# Altium schematic symbol library hedb.SchLib: 19 symbols
Pins are listed as number, name and electrical type; pins without a type are passive.

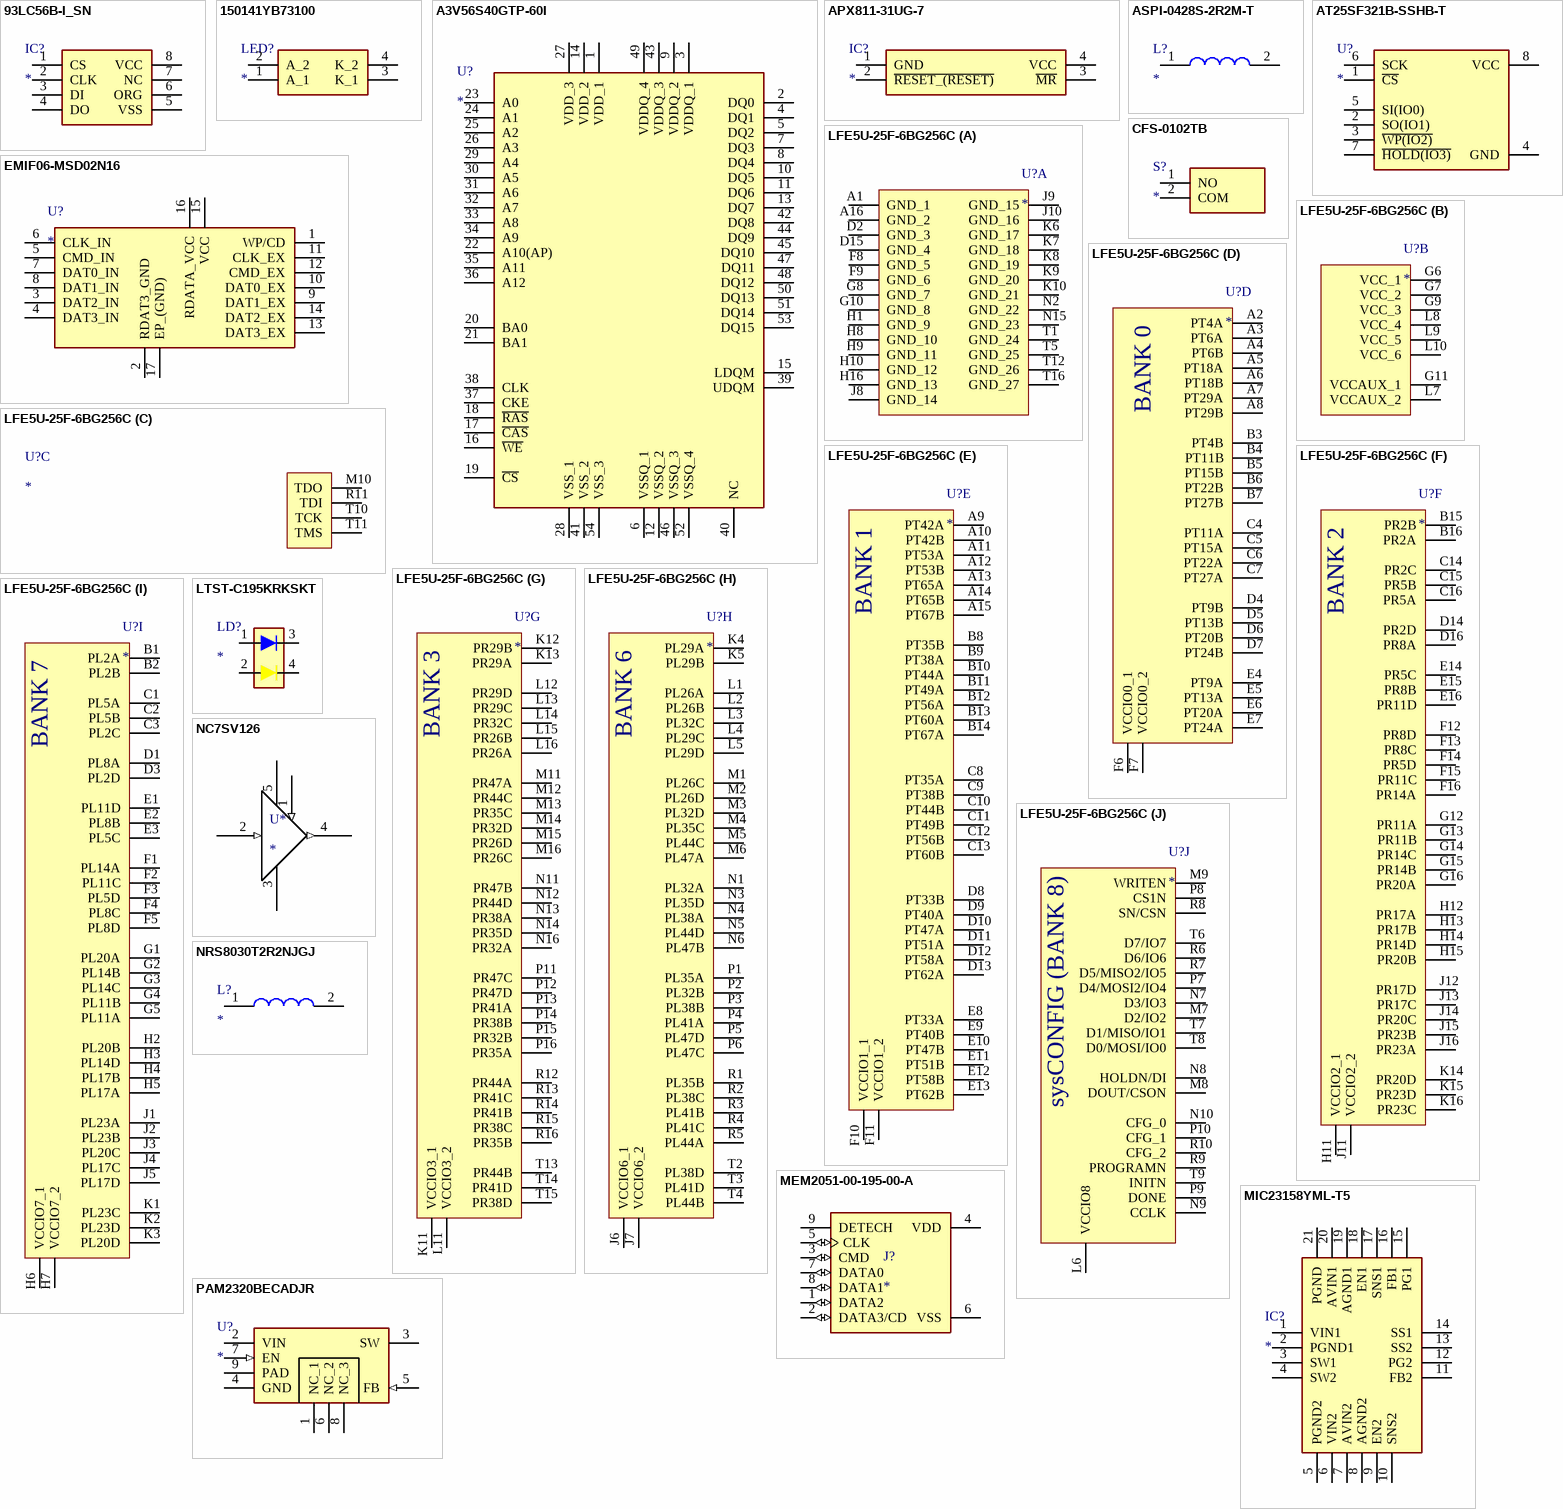
[diagram p0: symbols 93LC56B-I_SN to PAM2320BECADJR]

## 93LC56B-I_SN
designator IC?
Integrated Circuit; Manufacturer_Name: Microchip; Manufacturer_Part_Number: 93LC56B-I/SN; Datasheet Link: http://ww1.microchip.com/downloads/en/DeviceDoc/21794G.pdf; Height: 1.75mm; Mouser Part Number: 579-93LC56BISN; Mouser Price/Stock: https://www.mouser.co.uk/ProductDetail/Microchip-Technology/93LC56B-I-SN?qs=JhC4kYev1ubTO3jC60ECfA%3D%3D; Arrow Part Number: 93LC56B-I/SN; Arrow Price/Stock: https://www.arrow.com/en/products/93lc56b-isn/microchip-technology?region=nac
footprint SOIC127P600X175-8N
pins: 1 CS, 2 CLK, 3 DI, 4 DO, 5 VSS, 6 ORG, 7 NC, 8 VCC

## 150141YB73100
designator LED?
LED; Manufacturer_Name: Wurth Elektronik; Manufacturer_Part_Number: 150141YB73100; Datasheet Link: https://katalog.we-online.com/led/datasheet/150141YB73100.pdf; Mouser Part Number: 710-150141YB73100; Mouser Price/Stock: https://www.mouser.co.uk/ProductDetail/Wurth-Elektronik/150141YB73100?qs=LlUlMxKIyB0w3o6OoXw%252BvA%3D%3D
footprint WL-SBTW_SMD_TOP_LED
pins: 1 A_1, 2 A_2, 3 K_1, 4 K_2

## A3V56S40GTP-60I
designator U?
Integrated Circuit; Manufacturer_Name: Zentel; Manufacturer_Part_Number: A3V56S40GTP-60I; Datasheet Link: https://4donline.ihs.com/images/VipMasterIC/IC/ZENT/ZENT-S-A0003722637/ZENT-S-A0003722637-1.pdf?hkey=EF798316E3902B6ED9A73243A3159BB0; Height: 1.2mm
footprint SOP80P1176X120-54N
pins: 1 VDD_1, 2 DQ0, 3 VDDQ_1, 4 DQ1, 5 DQ2, 6 VSSQ_1, 7 DQ3, 8 DQ4, 9 VDDQ_2, 10 DQ5, 11 DQ6, 12 VSSQ_2, 13 DQ7, 14 VDD_2, 15 LDQM, 16 ~{WE}, 17 ~{CAS}, 18 ~{RAS}, 19 ~{CS}, 20 BA0, 21 BA1, 22 A10(AP), 23 A0, 24 A1, 25 A2, 26 A3, 27 VDD_3, 28 VSS_1, 29 A4, 30 A5, 31 A6, 32 A7, 33 A8, 34 A9, 35 A11, 36 A12, 37 CKE, 38 CLK, 39 UDQM, 40 NC, 41 VSS_2, 42 DQ8, 43 VDDQ_3, 44 DQ9, 45 DQ10, 46 VSSQ_3, 47 DQ11, 48 DQ12, 49 VDDQ_4, 50 DQ13, 51 DQ14, 52 VSSQ_4, 53 DQ15, 54 VSS_3

## APX811-31UG-7
designator IC?
Integrated Circuit; Manufacturer_Name: Diodes Inc.; Manufacturer_Part_Number: APX811-31UG-7; Datasheet Link: https://www.diodes.com/assets/Datasheets/APX811_812.pdf; Mouser Part Number: 621-APX811-31UG-7; Mouser Price/Stock: https://www.mouser.co.uk/ProductDetail/Diodes-Incorporated/APX811-31UG-7?qs=uwE%252BXfKqZqSgAtkeUziWwA%3D%3D; Arrow Part Number: APX811-31UG-7; Arrow Price/Stock: https://www.arrow.com/en/products/apx811-31ug-7/diodes-incorporated?region=nac
footprint SOT143
pins: 1 GND, 2 ~{RESET_(RESET)}, 3 ~{MR}, 4 VCC

## ASPI-0428S-2R2M-T
designator L?
Inductor; Manufacturer_Name: ABRACON; Manufacturer_Part_Number: ASPI-0428S-2R2M-T; Datasheet Link: https://abracon.com/Magnetics/power/ASPI0428S.pdf; Height: 3mm; Mouser Part Number: 815-ASPI-0428S-2R2M; Mouser Price/Stock: https://www.mouser.com/Search/Refine.aspx?Keyword=815-ASPI-0428S-2R2M
footprint ASPI0428S2R2MT
pins: 1, 2

## AT25SF321B-SSHB-T
designator U?
Integrated Circuit; Manufacturer_Name: Adesto Technologies; Manufacturer_Part_Number: AT25SF321B-SSHB-T; Datasheet Link: https://datasheet.datasheetarchive.com/originals/distributors/Datasheets_SAMA/2107a9c539d1764c2819650dbf0db220.pdf; Height: 1.75mm; Mouser Part Number: 988-AT25SF321BSSHB-T; Mouser Price/Stock: https://www.mouser.co.uk/ProductDetail/Adesto-Technologies/AT25SF321B-SSHB-T?qs=B6kkDfuK7%2FBmWqMcbWivvw%3D%3D; Arrow Part Number: AT25SF321B-SSHB-T; Arrow Price/Stock: https://www.arrow.com/en/products/at25sf321b-sshb-t/adesto-technologies-corporation-inc
footprint SOIC127P600X175-8N
pins: 1 ~{CS}, 2 SO(IO1), 3 ~{WP(IO2)}, 4 GND, 5 SI(IO0), 6 SCK, 7 ~{HOLD(IO3)}, 8 VCC

## CFS-0102TB
designator S?
Switch; Manufacturer_Name: NIDEC COPAL; Manufacturer_Part_Number: CFS-0102TB; Datasheet Link: https://www.nidec-copal-electronics.com/e/catalog/switch/cfs.pdf; Height: 4.7mm; Mouser Part Number: 229-CFS-0102TB; Mouser Price/Stock: https://www.mouser.co.uk/ProductDetail/Nidec-Copal/CFS-0102TB?qs=XeJtXLiO41Q%2F6gtnIMuqpA%3D%3D
footprint CFS0102TB
pins: 1 NO, 2 COM

## EMIF06-MSD02N16
designator U?
Filter; Manufacturer_Name: STMicroelectronics; Manufacturer_Part_Number: EMIF06-MSD02N16; Datasheet Link: http://www.st.com/content/ccc/resource/technical/document/datasheet/a7/86/d3/98/2c/7f/4b/d2/CD00217829.pdf/files/CD00217829.pdf/jcr:content/translations/en.CD00217829.pdf; Height: 0mm; Mouser Part Number: 511-EMIF06-MSD02N16; Mouser Price/Stock: https://www.mouser.co.uk/ProductDetail/STMicroelectronics/EMIF06-MSD02N16?qs=1CGoW%2F3pMwpSqVuN8kmN4Q%3D%3D; Arrow Part Number: EMIF06-MSD02N16; Arrow Price/Stock: https://www.arrow.com/en/products/emif06-msd02n16/stmicroelectronics
footprint EMIF06MSD02N16
pins: 1 WP/CD, 2 RDAT3_GND, 3 DAT2_IN, 4 DAT3_IN, 5 CMD_IN, 6 CLK_IN, 7 DAT0_IN, 8 DAT1_IN, 9 DAT1_EX, 10 DAT0_EX, 11 CLK_EX, 12 CMD_EX, 13 DAT3_EX, 14 DAT2_EX, 15 VCC, 16 RDATA_VCC, 17 EP_(GND)

## LFE5U-25F-6BG256C
designator U?
Integrated Circuit; Manufacturer_Name: Lattice Semiconductor; Manufacturer_Part_Number: LFE5U-25F-6BG256C; Datasheet Link: http://www.latticesemi.com/view_document?document_id=50461; Height: 1.7mm; Mouser Part Number: 842-LFE5U25F6BG256C; Mouser Price/Stock: https://www.mouser.co.uk/ProductDetail/Lattice/LFE5U-25F-6BG256C?qs=w%2Fv1CP2dgqrTaI14mPfyBg%3D%3D; Arrow Part Number: LFE5U-25F-6BG256C; Arrow Price/Stock: https://www.arrow.com/en/products/lfe5u-25f-6bg256c/lattice-semiconductor
footprint BGA256C80P16X16_1400X1400X170
part A pins: A1 GND_1, A16 GND_2, D2 GND_3, D15 GND_4, F8 GND_5, F9 GND_6, G8 GND_7, G10 GND_8, H1 GND_9, H8 GND_10, H9 GND_11, H10 GND_12, H16 GND_13, J8 GND_14, J9 GND_15, J10 GND_16, K6 GND_17, K7 GND_18, K8 GND_19, K9 GND_20, K10 GND_21, N2 GND_22, N15 GND_23, T1 GND_24, T5 GND_25, T12 GND_26, T16 GND_27
part B pins: G6 VCC_1, G7 VCC_2, G9 VCC_3, G11 VCCAUX_1, L7 VCCAUX_2, L8 VCC_4, L9 VCC_5, L10 VCC_6
part C pins: M10 TDO, R11 TDI, T10 TCK, T11 TMS
part D pins: A2 PT4A, A3 PT6A, A4 PT6B, A5 PT18A, A6 PT18B, A7 PT29A, A8 PT29B, B3 PT4B, B4 PT11B, B5 PT15B, B6 PT22B, B7 PT27B, C4 PT11A, C5 PT15A, C6 PT22A, C7 PT27A, D4 PT9B, D5 PT13B, D6 PT20B, D7 PT24B, E4 PT9A, E5 PT13A, E6 PT20A, E7 PT24A, F6 VCCIO0_1, F7 VCCIO0_2
part E pins: A9 PT42A, A10 PT42B, A11 PT53A, A12 PT53B, A13 PT65A, A14 PT65B, A15 PT67B, B8 PT35B, B9 PT38A, B10 PT44A, B11 PT49A, B12 PT56A, B13 PT60A, B14 PT67A, C8 PT35A, C9 PT38B, C10 PT44B, C11 PT49B, C12 PT56B, C13 PT60B, D8 PT33B, D9 PT40A, D10 PT47A, D11 PT51A, D12 PT58A, D13 PT62A, E8 PT33A, E9 PT40B, E10 PT47B, E11 PT51B, E12 PT58B, E13 PT62B, F10 VCCIO1_1, F11 VCCIO1_2
part F pins: B15 PR2B, B16 PR2A, C14 PR2C, C15 PR5B, C16 PR5A, D14 PR2D, D16 PR8A, E14 PR5C, E15 PR8B, E16 PR11D, F12 PR8D, F13 PR8C, F14 PR5D, F15 PR11C, F16 PR14A, G12 PR11A, G13 PR11B, G14 PR14C, G15 PR14B, G16 PR20A, H11 VCCIO2_1, H12 PR17A, H13 PR17B, H14 PR14D, H15 PR20B, J11 VCCIO2_2, J12 PR17D, J13 PR17C, J14 PR20C, J15 PR23B, J16 PR23A, K14 PR20D, K15 PR23D, K16 PR23C
part G pins: K11 VCCIO3_1, K12 PR29B, K13 PR29A, L11 VCCIO3_2, L12 PR29D, L13 PR29C, L14 PR32C, L15 PR26B, L16 PR26A, M11 PR47A, M12 PR44C, M13 PR35C, M14 PR32D, M15 PR26D, M16 PR26C, N11 PR47B, N12 PR44D, N13 PR38A, N14 PR35D, N16 PR32A, P11 PR47C, P12 PR47D, P13 PR41A, P14 PR38B, P15 PR32B, P16 PR35A, R12 PR44A, R13 PR41C, R14 PR41B, R15 PR38C, R16 PR35B, T13 PR44B, T14 PR41D, T15 PR38D
part H pins: J6 VCCIO6_1, J7 VCCIO6_2, K4 PL29A, K5 PL29B, L1 PL26A, L2 PL26B, L3 PL32C, L4 PL29C, L5 PL29D, M1 PL26C, M2 PL26D, M3 PL32D, M4 PL35C, M5 PL44C, M6 PL47A, N1 PL32A, N3 PL35D, N4 PL38A, N5 PL44D, N6 PL47B, P1 PL35A, P2 PL32B, P3 PL38B, P4 PL41A, P5 PL47D, P6 PL47C, R1 PL35B, R2 PL38C, R3 PL41B, R4 PL41C, R5 PL44A, T2 PL38D, T3 PL41D, T4 PL44B
part I pins: B1 PL2A, B2 PL2B, C1 PL5A, C2 PL5B, C3 PL2C, D1 PL8A, D3 PL2D, E1 PL11D, E2 PL8B, E3 PL5C, F1 PL14A, F2 PL11C, F3 PL5D, F4 PL8C, F5 PL8D, G1 PL20A, G2 PL14B, G3 PL14C, G4 PL11B, G5 PL11A, H2 PL20B, H3 PL14D, H4 PL17B, H5 PL17A, H6 VCCIO7_1, H7 VCCIO7_2, J1 PL23A, J2 PL23B, J3 PL20C, J4 PL17C, J5 PL17D, K1 PL23C, K2 PL23D, K3 PL20D
part J pins: L6 VCCIO8, M7 D2/IO2, M8 DOUT/CSON, M9 WRITEN, N7 D3/IO3, N8 HOLDN/DI, N9 CCLK, N10 CFG_0, P7 D4/MOSI2/IO4, P8 CS1N, P9 DONE, P10 CFG_1, R6 D6/IO6, R7 D5/MISO2/IO5, R8 SN/CSN, R9 PROGRAMN, R10 CFG_2, T6 D7/IO7, T7 D1/MISO/IO1, T8 D0/MOSI/IO0, T9 INITN
part D text: BANK 0
part E text: BANK 1
part F text: BANK 2
part G text: BANK 3
part H text: BANK 6
part I text: BANK 7
part J text: sysCONFIG (BANK 8)

## LTST-C195KRKSKT
designator LD?
LED; Manufacturer_Name: Lite-On; Manufacturer_Part_Number: LTST-C195KRKSKT; Datasheet Link: http://optoelectronics.liteon.com/upload/download/DS22-2001-057/LTST-C195KRKSKT.pdf; Height: 0.55mm; Mouser Part Number: 859-LTST-C195KRKSKT; Mouser Price/Stock: https://www.mouser.co.uk/ProductDetail/Lite-On/LTST-C195KRKSKT?qs=xb8aMrBSZRJCAeuhERQguQ%3D%3D; Arrow Part Number: LTST-C195KRKSKT; Arrow Price/Stock: https://www.arrow.com/en/products/ltst-c195krkskt/lite-on-technology?region=nac
footprint LTSTC195KRKSKT
pins: 1 A_1, 2 A_2, 3 K_1, 4 K_2

## MEM2051-00-195-00-A
designator J?
9 (8 + 1) Position Card Connector microSDâ„¢ Surface Mount, Right Angle Gold, 1.95mm profile, Normally open switch, Push push, Top mount; MF: Global Connector Technology; MP: MEM2051-00-195-00-A; Purchase-URL: https://pricing.snapeda.com/search/part/MEM2051-00-195-00-A/?ref=eda; Price: None; SnapEDA_Link: https://www.snapeda.com/parts/MEM2051-00-195-00-A/Global%20Connector%20Technology/view-part/779220/?ref=snap; Check_prices: https://www.snapeda.com/parts/MEM2051-00-195-00-A/Global%20Connector%20Technology/view-part/779220/?ref=eda; Package: None; Value: *; Availability: Warning
footprint GCT_MEM2051-00-195-00-A
pins: 1 DATA2 (io), 2 DATA3/CD (io), 3 CMD (io), 4 VDD (power), 5 CLK (io), 6 VSS (power), 7 DATA0 (io), 8 DATA1 (io), 9 DETECH

## MIC23158YML-T5
designator IC?
Integrated Circuit; Manufacturer_Name: Microchip; Manufacturer_Part_Number: MIC23158YML-T5; Datasheet Link: https://componentsearchengine.com/Datasheets/1/MIC23158YML-T5.pdf; Height: 0.9mm; Mouser Part Number: 998-MIC23158YMLT5; Mouser Price/Stock: https://www.mouser.co.uk/ProductDetail/Microchip-Technology-Micrel/MIC23158YML-T5?qs=Y3Q3JoKAO1R7NG48bMU2mw%3D%3D
footprint QFN50P300X400X90-21N
pins: 1 VIN1, 2 PGND1, 3 SW1, 4 SW2, 5 PGND2, 6 VIN2, 7 AVIN2, 8 AGND2, 9 EN2, 10 SNS2, 11 FB2, 12 PG2, 13 SS2, 14 SS1, 15 PG1, 16 FB1, 17 SNS1, 18 EN1, 19 AGND1, 20 AVIN1, 21 PGND

## NC7SV126
designator U*
Buffer with three-state output
footprint SOT65P210X110-5N
pins: 1 OE (in), 2 A (in), 3 GND, 4 Y (out), 5 Vcc

## NRS8030T2R2NJGJ
designator L?
Inductor; Manufacturer_Name: TAIYO YUDEN; Manufacturer_Part_Number: NRS8030T2R2NJGJ; Datasheet Link: https://www.yuden.co.jp/productdata/catalog/wound04_e.pdf; Height: 3mm; Mouser Part Number: 963-NRS8030T2R2NJGJ; Mouser Price/Stock: https://www.mouser.co.uk/ProductDetail/Taiyo-Yuden/NRS8030T2R2NJGJ?qs=PzICbMaShUdl3gVpC8DusQ%3D%3D
footprint NRS8030T4R7MJGJ
pins: 1, 2

## PAM2320BECADJR
designator U?
Integrated Circuit; Manufacturer_Name: Diodes Inc.; Manufacturer_Part_Number: PAM2320BECADJR; Datasheet Link: http://uk.rs-online.com/web/p/products/1221493; Height: 1.75mm; Mouser Part Number: 621-PAM2320BECADJR; Mouser Price/Stock: https://www.mouser.co.uk/ProductDetail/Diodes-Incorporated/PAM2320BECADJR?qs=%252BSlWJf1dfkJZxNBCXSxYHw%3D%3D; Arrow Part Number: PAM2320BECADJR; Arrow Price/Stock: https://www.arrow.com/en/products/pam2320becadjr/diodes-incorporated
footprint SOIC127P600X175-9N
pins: 1 NC_1, 2 VIN (power), 3 SW (power), 4 GND (power), 5 FB (in), 6 NC_2, 7 EN (in), 8 NC_3, 9 PAD

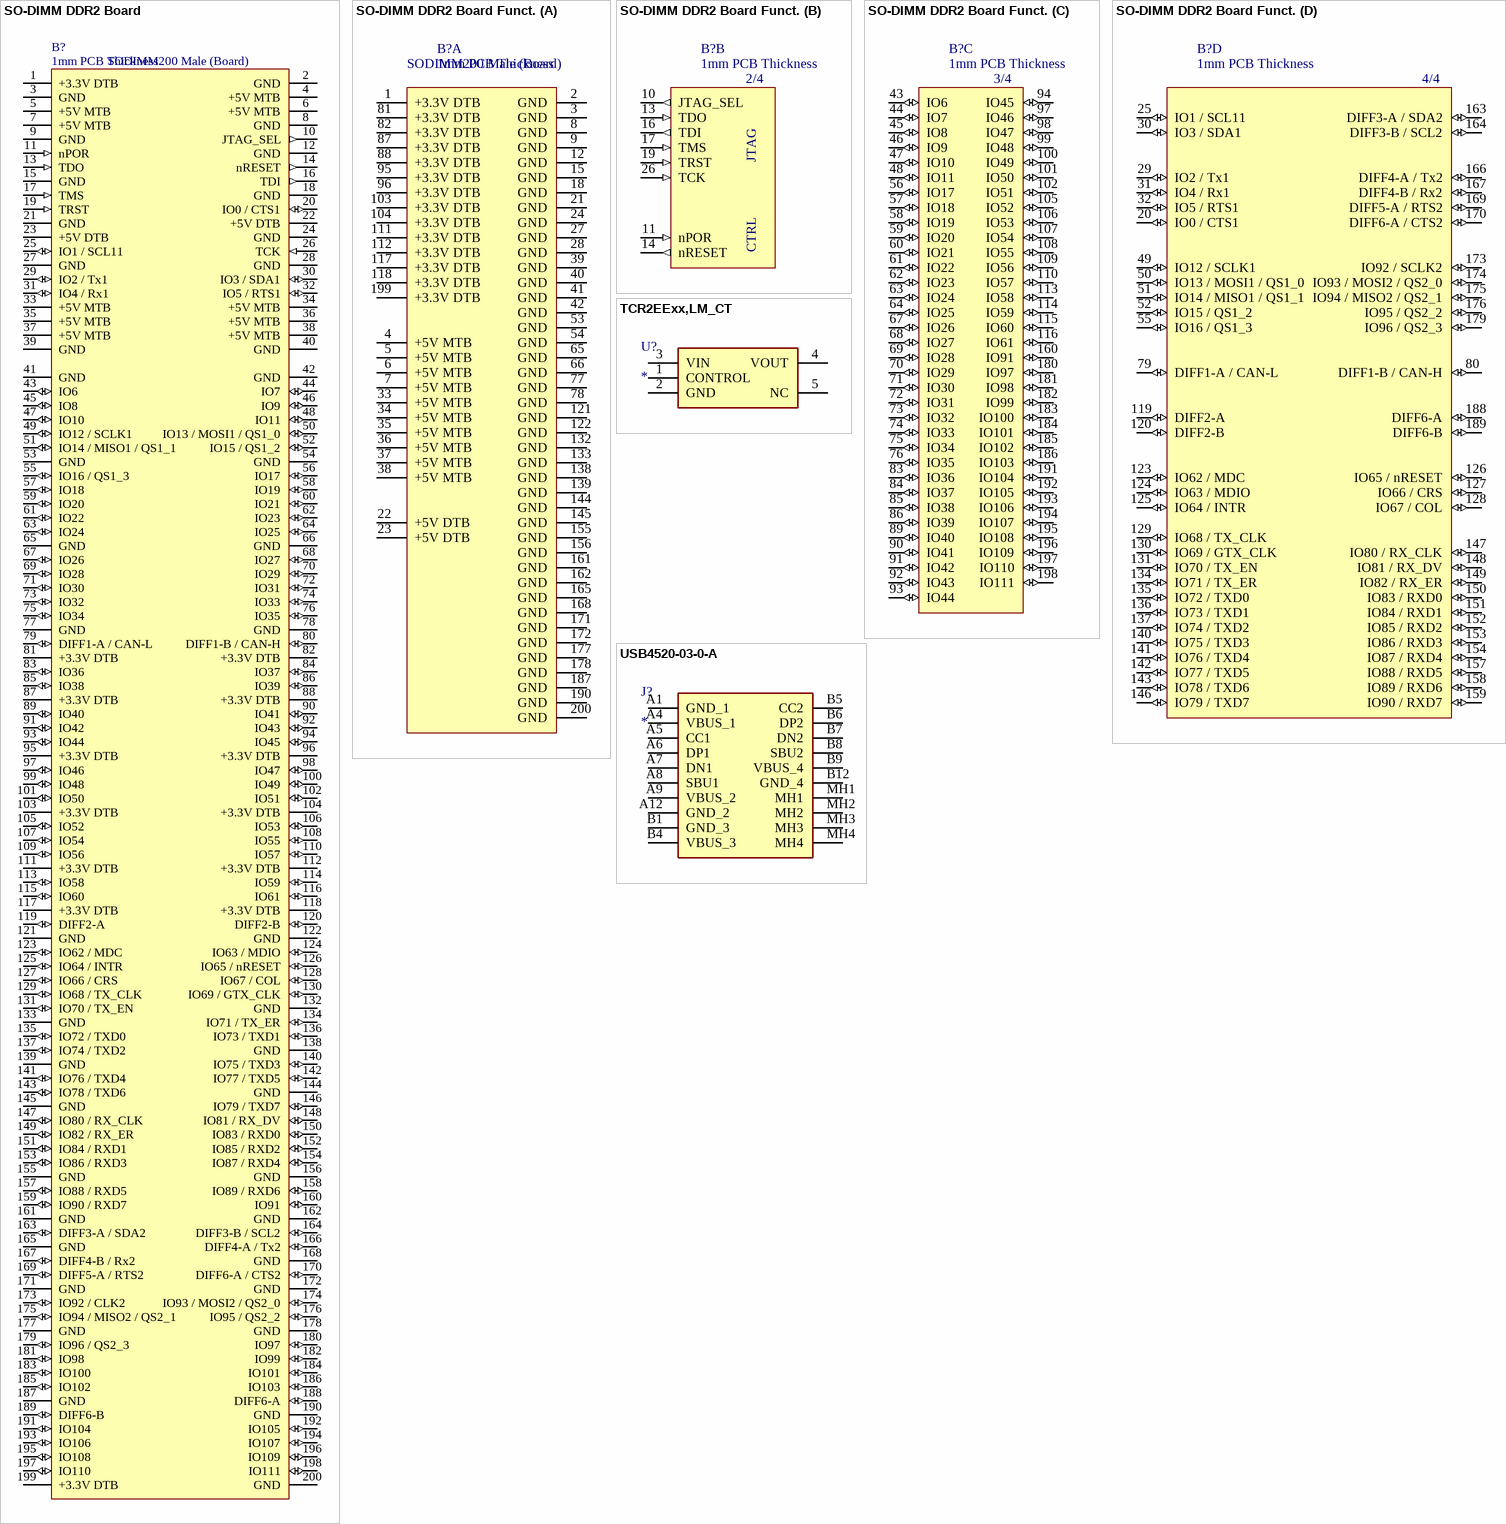
[diagram p1: symbols SO-DIMM DDR2 Board to USB4520-03-0-A]

## SO-DIMM DDR2 Board
designator B?, comment 1mm PCB Thickness
DDR1 & DDR2 Board 0.6mm pitch 200 Positions; Value: 1mm PCB Thickness
footprint DDR2 SODIMM Socket 0.6mm pitch 200 Positions 2.5V
pins: 1 +3.3V DTB (power), 2 GND (power), 3 GND (power), 4 +5V MTB (power), 5 +5V MTB (power), 6 +5V MTB (power), 7 +5V MTB (power), 8 GND (power), 9 GND (power), 10 JTAG_SEL (out), 11 nPOR (in), 12 GND (power), 13 TDO (in), 14 nRESET (out), 15 GND (power), 16 TDI (out), 17 TMS (in), 18 GND (power), 19 TRST (in), 20 IO0 / CTS1 (io), 21 GND (power), 22 +5V DTB (power), 23 +5V DTB (power), 24 GND (power), 25 IO1 / SCL11 (io), 26 TCK (in), 27 GND (power), 28 GND (power), 29 IO2 / Tx1 (io), 30 IO3 / SDA1 (io), 31 IO4 / Rx1 (io), 32 IO5 / RTS1 (io), 33 +5V MTB (power), 34 +5V MTB (power), 35 +5V MTB (power), 36 +5V MTB (power), 37 +5V MTB (power), 38 +5V MTB (power), 39 GND (power), 40 GND (power), 41 GND (power), 42 GND (power), 43 IO6 (io), 44 IO7 (io), 45 IO8 (io), 46 IO9 (io), 47 IO10 (io), 48 IO11 (io), 49 IO12 / SCLK1 (io), 50 IO13 / MOSI1 / QS1_0 (io), 51 IO14 / MISO1 / QS1_1 (io), 52 IO15 / QS1_2 (io), 53 GND (power), 54 GND (power), 55 IO16 / QS1_3 (io), 56 IO17 (io), 57 IO18 (io), 58 IO19 (io), 59 IO20 (io), 60 IO21 (io), 61 IO22 (io), 62 IO23 (io), 63 IO24 (io), 64 IO25 (io), 65 GND (power), 66 GND (power), 67 IO26 (io), 68 IO27 (io), 69 IO28 (io), 70 IO29 (io), 71 IO30 (io), 72 IO31 (io), 73 IO32 (io), 74 IO33 (io), 75 IO34 (io), 76 IO35 (io), 77 GND (power), 78 GND (power), 79 DIFF1-A / CAN-L (io), 80 DIFF1-B / CAN-H (io), 81 +3.3V DTB (power), 82 +3.3V DTB (power), 83 IO36 (io), 84 IO37 (io), 85 IO38 (io), 86 IO39 (io), 87 +3.3V DTB (power), 88 +3.3V DTB (power), 89 IO40 (io), 90 IO41 (io), 91 IO42 (io), 92 IO43 (io), 93 IO44 (io), 94 IO45 (io), 95 +3.3V DTB (power), 96 +3.3V DTB (power), 97 IO46 (io), 98 IO47 (io), 99 IO48 (io), 100 IO49 (io), 101 IO50 (io), 102 IO51 (io), 103 +3.3V DTB (power), 104 +3.3V DTB (power), 105 IO52 (io), 106 IO53 (io), 107 IO54 (io), 108 IO55 (io), 109 IO56 (io), 110 IO57 (io), 111 +3.3V DTB (power), 112 +3.3V DTB (power), 113 IO58 (io), 114 IO59 (io), 115 IO60 (io), 116 IO61 (io), 117 +3.3V DTB (power), 118 +3.3V DTB (power), 119 DIFF2-A (io), 120 DIFF2-B (io), 121 GND (power), 122 GND (power), 123 IO62 / MDC (io), 124 IO63 / MDIO (io), 125 IO64 / INTR (io), 126 IO65 / nRESET (io), 127 IO66 / CRS (io), 128 IO67 / COL (io), 129 IO68 / TX_CLK (io), 130 IO69 / GTX_CLK (io), 131 IO70 / TX_EN (io), 132 GND (power), 133 GND (power), 134 IO71 / TX_ER (io), 135 IO72 / TXD0 (io), 136 IO73 / TXD1 (io), 137 IO74 / TXD2 (io), 138 GND (power), 139 GND (power), 140 IO75 / TXD3 (io), 141 IO76 / TXD4 (io), 142 IO77 / TXD5 (io), 143 IO78 / TXD6 (io), 144 GND (power), 145 GND (power), 146 IO79 / TXD7 (io), 147 IO80 / RX_CLK (io), 148 IO81 / RX_DV (io), 149 IO82 / RX_ER (io), 150 IO83 / RXD0 (io), 151 IO84 / RXD1 (io), 152 IO85 / RXD2 (io), 153 IO86 / RXD3 (io), 154 IO87 / RXD4 (io), 155 GND (power), 156 GND (power), 157 IO88 / RXD5 (io), 158 IO89 / RXD6 (io), 159 IO90 / RXD7 (io), 160 IO91 (io), 161 GND (power), 162 GND (power), 163 DIFF3-A / SDA2 (io), 164 DIFF3-B / SCL2 (io), 165 GND (power), 166 DIFF4-A / Tx2 (io), 167 DIFF4-B / Rx2 (io), 168 GND (power), 169 DIFF5-A / RTS2 (io), 170 DIFF6-A / CTS2 (io), 171 GND (power), 172 GND (power), 173 IO92 / CLK2 (io), 174 IO93 / MOSI2 / QS2_0 (io), 175 IO94 / MISO2 / QS2_1 (io), 176 IO95 / QS2_2 (io), 177 GND (power), 178 GND (power), 179 IO96 / QS2_3 (io), 180 IO97 (io), 181 IO98 (io), 182 IO99 (io), 183 IO100 (io), 184 IO101 (io), 185 IO102 (io), 186 IO103 (io), 187 GND (power), 188 DIFF6-A (io), 189 DIFF6-B (io), 190 GND (power), 191 IO104 (io), 192 IO105 (io), 193 IO106 (io), 194 IO107 (io), 195 IO108 (io), 196 IO109 (io), 197 IO110 (io), 198 IO111 (io), 199 +3.3V DTB (power), 200 GND (power)
text: SODIMM200 Male (Board)

## SO-DIMM DDR2 Board Funct.
designator B?, comment 1mm PCB Thickness
DDR1 & DDR2 Board 0.6mm pitch 200 Positions; Value: 1mm PCB Thickness
footprint DDR2 SODIMM Socket 0.6mm pitch 200 Positions 2.5V
part A pins: 1 +3.3V DTB (power), 2 GND (power), 3 GND (power), 4 +5V MTB (power), 5 +5V MTB (power), 6 +5V MTB (power), 7 +5V MTB (power), 8 GND (power), 9 GND (power), 12 GND (power), 15 GND (power), 18 GND (power), 21 GND (power), 22 +5V DTB (power), 23 +5V DTB (power), 24 GND (power), 27 GND (power), 28 GND (power), 33 +5V MTB (power), 34 +5V MTB (power), 35 +5V MTB (power), 36 +5V MTB (power), 37 +5V MTB (power), 38 +5V MTB (power), 39 GND (power), 40 GND (power), 41 GND (power), 42 GND (power), 53 GND (power), 54 GND (power), 65 GND (power), 66 GND (power), 77 GND (power), 78 GND (power), 81 +3.3V DTB (power), 82 +3.3V DTB (power), 87 +3.3V DTB (power), 88 +3.3V DTB (power), 95 +3.3V DTB (power), 96 +3.3V DTB (power), 103 +3.3V DTB (power), 104 +3.3V DTB (power), 111 +3.3V DTB (power), 112 +3.3V DTB (power), 117 +3.3V DTB (power), 118 +3.3V DTB (power), 121 GND (power), 122 GND (power), 132 GND (power), 133 GND (power), 138 GND (power), 139 GND (power), 144 GND (power), 145 GND (power), 155 GND (power), 156 GND (power), 161 GND (power), 162 GND (power), 165 GND (power), 168 GND (power), 171 GND (power), 172 GND (power), 177 GND (power), 178 GND (power), 187 GND (power), 190 GND (power), 199 +3.3V DTB (power), 200 GND (power)
part B pins: 10 JTAG_SEL (out), 11 nPOR (in), 13 TDO (in), 14 nRESET (out), 16 TDI (out), 17 TMS (in), 19 TRST (in), 26 TCK (in)
part C pins: 43 IO6 (io), 44 IO7 (io), 45 IO8 (io), 46 IO9 (io), 47 IO10 (io), 48 IO11 (io), 56 IO17 (io), 57 IO18 (io), 58 IO19 (io), 59 IO20 (io), 60 IO21 (io), 61 IO22 (io), 62 IO23 (io), 63 IO24 (io), 64 IO25 (io), 67 IO26 (io), 68 IO27 (io), 69 IO28 (io), 70 IO29 (io), 71 IO30 (io), 72 IO31 (io), 73 IO32 (io), 74 IO33 (io), 75 IO34 (io), 76 IO35 (io), 83 IO36 (io), 84 IO37 (io), 85 IO38 (io), 86 IO39 (io), 89 IO40 (io), 90 IO41 (io), 91 IO42 (io), 92 IO43 (io), 93 IO44 (io), 94 IO45 (io), 97 IO46 (io), 98 IO47 (io), 99 IO48 (io), 100 IO49 (io), 101 IO50 (io), 102 IO51 (io), 105 IO52 (io), 106 IO53 (io), 107 IO54 (io), 108 IO55 (io), 109 IO56 (io), 110 IO57 (io), 113 IO58 (io), 114 IO59 (io), 115 IO60 (io), 116 IO61 (io), 160 IO91 (io), 180 IO97 (io), 181 IO98 (io), 182 IO99 (io), 183 IO100 (io), 184 IO101 (io), 185 IO102 (io), 186 IO103 (io), 191 IO104 (io), 192 IO105 (io), 193 IO106 (io), 194 IO107 (io), 195 IO108 (io), 196 IO109 (io), 197 IO110 (io), 198 IO111 (io)
part D pins: 20 IO0 / CTS1 (io), 25 IO1 / SCL11 (io), 29 IO2 / Tx1 (io), 30 IO3 / SDA1 (io), 31 IO4 / Rx1 (io), 32 IO5 / RTS1 (io), 49 IO12 / SCLK1 (io), 50 IO13 / MOSI1 / QS1_0 (io), 51 IO14 / MISO1 / QS1_1 (io), 52 IO15 / QS1_2 (io), 55 IO16 / QS1_3 (io), 79 DIFF1-A / CAN-L (io), 80 DIFF1-B / CAN-H (io), 119 DIFF2-A (io), 120 DIFF2-B (io), 123 IO62 / MDC (io), 124 IO63 / MDIO (io), 125 IO64 / INTR (io), 126 IO65 / nRESET (io), 127 IO66 / CRS (io), 128 IO67 / COL (io), 129 IO68 / TX_CLK (io), 130 IO69 / GTX_CLK (io), 131 IO70 / TX_EN (io), 134 IO71 / TX_ER (io), 135 IO72 / TXD0 (io), 136 IO73 / TXD1 (io), 137 IO74 / TXD2 (io), 140 IO75 / TXD3 (io), 141 IO76 / TXD4 (io), 142 IO77 / TXD5 (io), 143 IO78 / TXD6 (io), 146 IO79 / TXD7 (io), 147 IO80 / RX_CLK (io), 148 IO81 / RX_DV (io), 149 IO82 / RX_ER (io), 150 IO83 / RXD0 (io), 151 IO84 / RXD1 (io), 152 IO85 / RXD2 (io), 153 IO86 / RXD3 (io), 154 IO87 / RXD4 (io), 157 IO88 / RXD5 (io), 158 IO89 / RXD6 (io), 159 IO90 / RXD7 (io), 163 DIFF3-A / SDA2 (io), 164 DIFF3-B / SCL2 (io), 166 DIFF4-A / Tx2 (io), 167 DIFF4-B / Rx2 (io), 169 DIFF5-A / RTS2 (io), 170 DIFF6-A / CTS2 (io), 173 IO92 / SCLK2 (io), 174 IO93 / MOSI2 / QS2_0 (io), 175 IO94 / MISO2 / QS2_1 (io), 176 IO95 / QS2_2 (io), 179 IO96 / QS2_3 (io), 188 DIFF6-A (io), 189 DIFF6-B (io)
part A text: SODIMM200 Male (Board)
part B text: 2/4; JTAG; CTRL
part C text: 3/4
part D text: 4/4

## TCR2EExx,LM_CT
designator U?
Integrated Circuit; Manufacturer_Name: Toshiba; Manufacturer_Part_Number: TCR2EE10,LM(CT; Datasheet Link: https://toshiba.semicon-storage.com/info/docget.jsp?did=13794&prodName=TCR2EE10; Height: 0.6mm; Mouser Part Number: 757-TCR2EE10LMCT; Mouser Price/Stock: https://www.mouser.co.uk/ProductDetail/Toshiba/TCR2EE10LMCT?qs=d9Mk6%252B9NdtAIqeGBcNcWdA%3D%3D
footprint SOTFL50P160X60-5N
pins: 1 CONTROL, 2 GND, 3 VIN, 4 VOUT, 5 NC

## USB4520-03-0-A
designator J?
Connector; Manufacturer_Name: GCT (GLOBAL CONNECTOR TECHNOLOGY); Manufacturer_Part_Number: USB4520-03-0-A; Datasheet Link: https://componentsearchengine.com/Datasheets/2/USB4520-03-0-A.pdf; Height: 3.36mm; Mouser Part Number: 640-USB4520030A; Mouser Price/Stock: https://www.mouser.co.uk/ProductDetail/GCT/USB4520-03-0-A?qs=7D1LtPJG0i16f9tCCMAw%2FA%3D%3D
footprint USB4520030A
pins: A1 GND_1, A4 VBUS_1, A5 CC1, A6 DP1, A7 DN1, A8 SBU1, A9 VBUS_2, A12 GND_2, B1 GND_3, B4 VBUS_3, B5 CC2, B6 DP2, B7 DN2, B8 SBU2, B9 VBUS_4, B12 GND_4, MH1, MH2, MH3, MH4